# Altium schematic symbol library STM32BlackPill.SchLib: 1 symbol
Pins are listed as number, name and electrical type; pins without a type are passive.

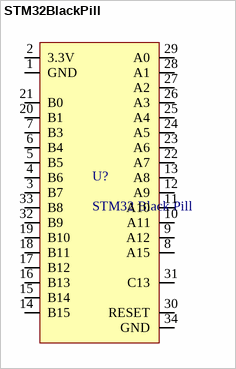
[diagram p0: symbol STM32BlackPill]

## STM32BlackPill
designator U?, comment STM32 Black Pill
STM32 Blackpill Breakout; ComponentLink1Description: Pinout Diagram; ComponentLink1URL: https://innovatorsguru.com/wp-content/uploads/2019/09/STM32-black-pill-pinout-1-1200x709.jpg
footprint STM32BlackPill (Footprint of STM32BlackPill)
pins: 1 GND, 2 3.3V, 3 B7, 4 B6, 5 B5, 6 B4, 7 B3, 8 A15, 9 A12, 10 A11, 11 A10, 12 A9, 13 A8, 14 B15, 15 B14, 16 B13, 17 B12, 18 B11, 19 B10, 20 B1, 21 B0, 22 A7, 23 A6, 24 A5, 25 A4, 26 A3, 27 A2, 28 A1, 29 A0, 30 RESET, 31 C13, 32 B9, 33 B8, 34 GND